# Altium schematic symbol library CRCW08055K00FKTA.SchLib: 1 symbol
Pins are listed as number, name and electrical type; pins without a type are passive.

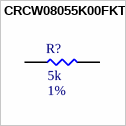
[diagram p0: symbol CRCW08055K00FKTA]

## CRCW08055K00FKTA
designator R?, comment Resistance: 5k  Tolerance: 1%  (hidden comment: 5k, 1%)
RES SMD 5K OHM 1% 1/8W 0805; MFR: Vishay Dale; PN: CRCW08055K00FKTA; Footprint: RES0805; Package: 0805; ComponentLink1Description: Datasheet; Power Rating: 1/8W; Supplier 1: Digi-Key; Supplier Part Number 1: 541-4321-1-ND
footprint RES0805 (Generic 0805 PCB Footprint)
pins: 1, 2